# EAGLE library part LM4811MM_NOPB (library LM4811MM_NOPB)
LM4811 Dual 105mW Headphone Amplifier with Digital Volume Control and Shutdown Mode Source: Datasheet <http://www.ti.com/lit/ds/symlink/lm4811.pdf>
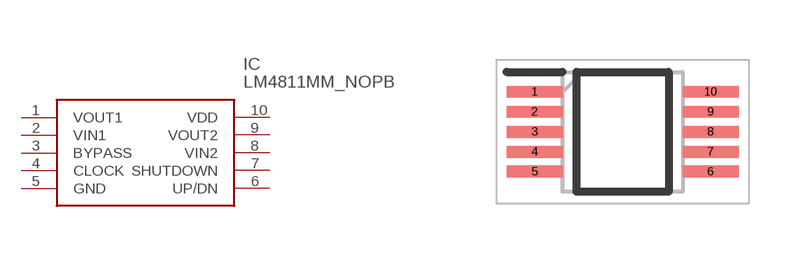
[diagram p0: symbol with the pads of SOP50P490X110-10N; footprint SOP50P490X110-10N]

Designator prefix IC

## LM4811MM_NOPB (Arrow_Part_Number: LM4811MM/NOPB; Arrow_Price-Stock: https://www.arrow.com/en/products/lm4811mmnopb/texas-instruments; Description: LM4811 Dual 105mW Headphone Amplifier with Digital Volume Control and Shutdown Mode; Height: 1.1mm; Manufacturer_Name: Texas Instruments; Manufacturer_Part_Number: LM4811MM/NOPB; Mouser_Part_Number: 926-LM4811MM/NOPB; Mouser_Price-Stock: https://www.mouser.co.uk/ProductDetail/Texas-Instruments/LM4811MM-NOPB?qs=QbsRYf82W3FLuQL5YsjYUw%3D%3D)  [SOP50P490X110-10N]
1  VOUT1  out
2  VIN1  in
3  BYPASS
4  CLOCK  in
5  GND  pwr
6  UP/DN
7  SHUTDOWN
8  VIN2  in
9  VOUT2  out
10  VDD  pwr

## Footprint SOP50P490X110-10N (pad centres in mm)
DGS (S-PDSO-G10)
smd 1.4 x 0.3: 1 -2.2,1; 2 -2.2,0.5; 3 -2.2,0; 4 -2.2,-0.5; 5 -2.2,-1; 6 2.2,-1; 7 2.2,-0.5; 8 2.2,0; 9 2.2,0.5; 10 2.2,1